# Altium footprint library Capacitor.PcbLib: 24 footprints (part 1 of 2)
Each footprint in its own frame and in the unit in brackets; x right, y up, seen from the top. Pads: shape width x height; smd on the part's side, far side on the other; paste and mask are expansions set on the pad; w line width, h text height; cw(c..) or ccw(c..) is an arc to the next point about the centre after c.
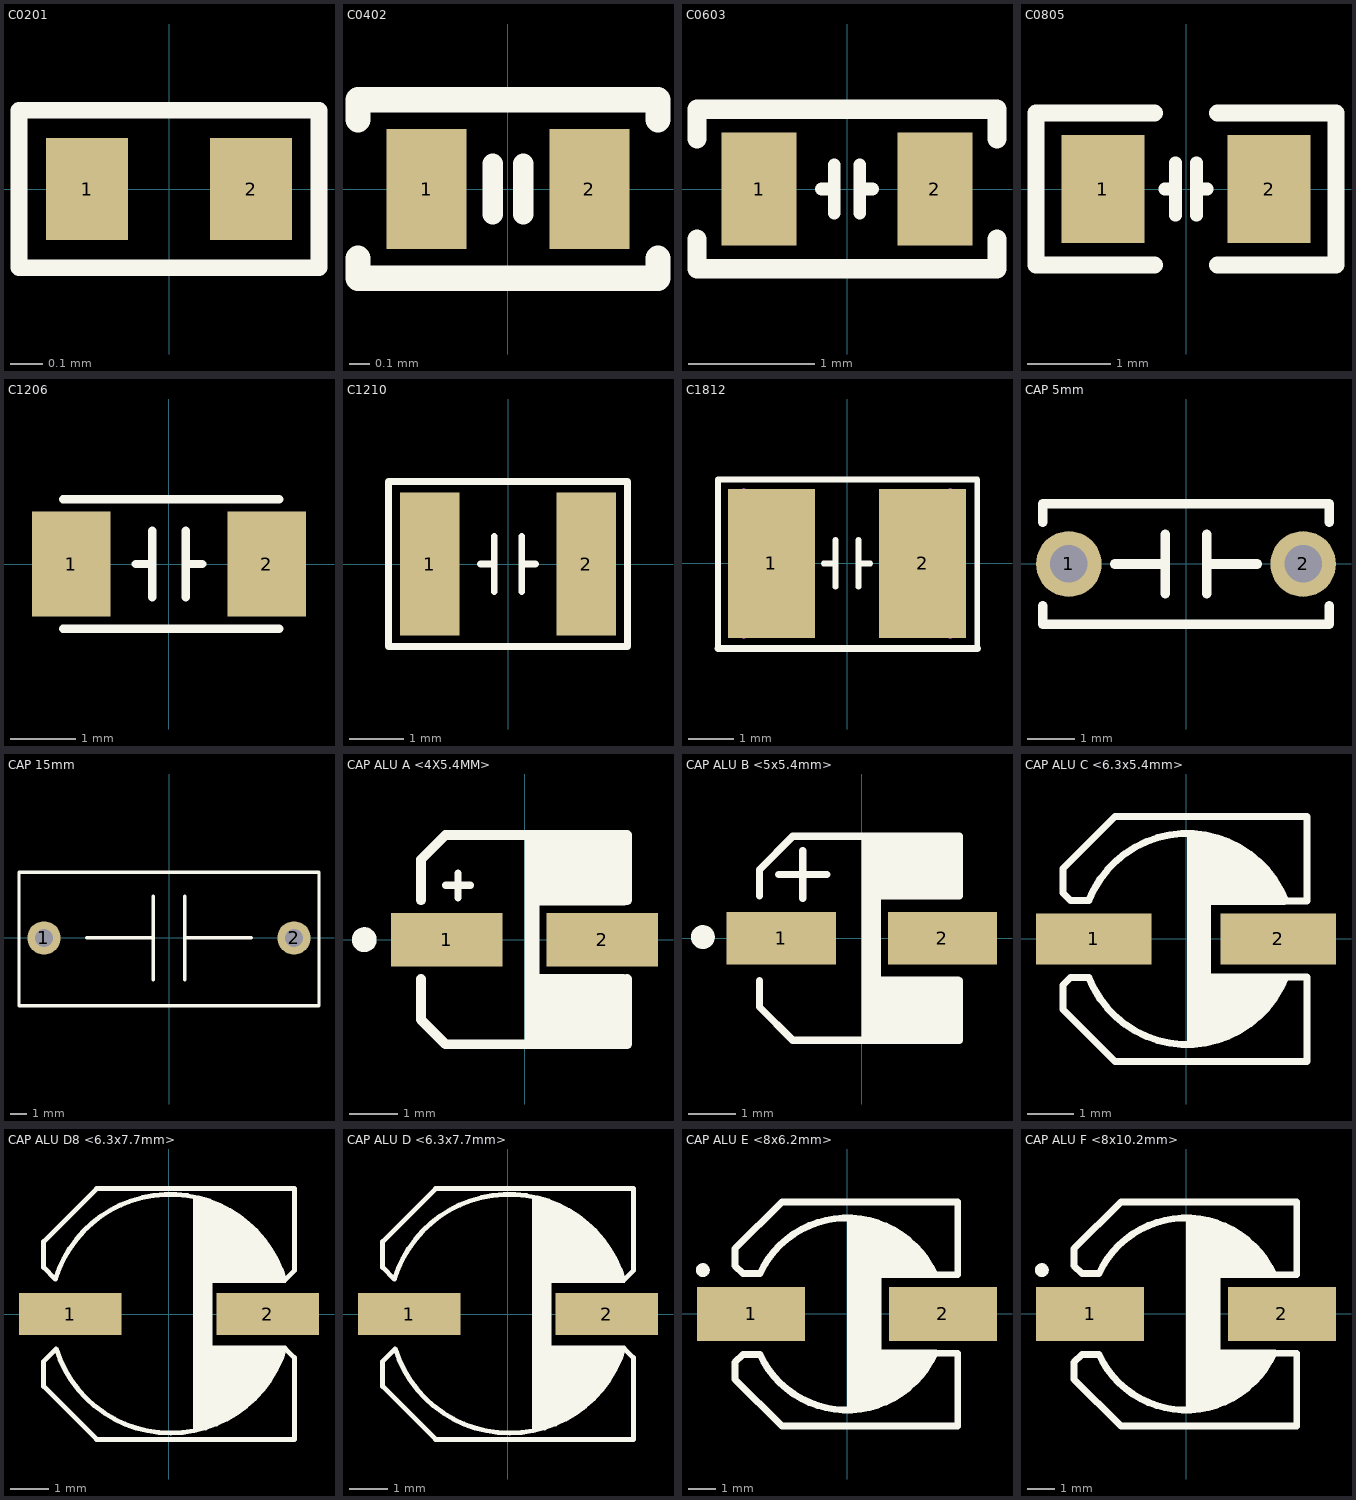
[diagram p0: the footprints below, top view; thin cyan lines are the x and y axes]

## C0201 [mm]
height 0.3
pads (2):
  rect 0.25x0.31 smd mask+0.051: 1(-0.25,0) 2(0.25,0)
Top Overlay:
  lines w0.051: -0.458,-0.24 0.457,-0.24 0.457,0.241 -0.458,0.241 -0.458,-0.24
3D body "C0201.stp": height 0.32, standoff 0.02, extent -0.3,-0.15 0.3,0.15

## C0402 [mm]
pads (2):
  rect 0.4x0.6 smd mask+0.051: 1(-0.406,0) 2(0.406,0)
Top Overlay:
  lines w0.102: -0.076,-0.127 -0.076,0.127 ; 0.076,-0.127 0.076,0.127
  lines w0.127: -0.75,-0.345 -0.75,-0.445 0.75,-0.445 0.75,-0.345 ; -0.75,0.346 -0.75,0.446 0.75,0.446 0.75,0.346
3D body "capacitor-0402C.step": height 0.35, standoff 0, extent -0.5,-0.265 0.5,0.265

## C0603 [mm]
height 5.08
pads (2):
  rect 0.6x0.9 smd mask+0.076: 1(-0.7,0) 2(0.7,0)
Top Overlay:
  lines w0.102: -0.203,0 -0.102,0 ; -0.102,-0.191 -0.102,0.191 ; 0.102,-0.191 0.102,0.191 ; 0.102,0 0.203,0
  lines w0.152: -1.194,-0.399 -1.194,-0.635 1.194,-0.635 1.194,-0.399 ; -1.194,0.399 -1.194,0.635 1.194,0.635 1.194,0.399
3D body "User Library-CAPC1608X09.step": height 0.9, standoff 0, extent -0.8,-0.4 0.8,0.4

## C0805 [mm]
height 1.27
pads (2):
  rect 1x1.3 smd: 1(-0.999,0) 2(0.999,0)
Top Overlay:
  lines w0.152: -0.254,0 -0.127,0 ; -0.127,-0.318 -0.127,0.318 ; 0.127,-0.318 0.127,0.318 ; 0.127,0 0.254,0
  lines w0.203: -0.381,-0.914 -1.803,-0.914 -1.803,0.914 -0.381,0.914 ; 0.381,-0.914 1.803,-0.914 1.803,0.914 0.381,0.914
3D body "SW3dPS-0805 SMD Capacitor.STEP": height 0.78, standoff 0, extent -1,-0.625 1,0.625

## C1206 [mm]
height 1.1
pads (2):
  rect 1.2x1.6 smd: 1(-1.492,0.001) 2(1.492,-0.001)
Top Overlay:
  lines w0.127: -1.619,-0.99 1.683,-0.99 ; -1.619,0.991 1.683,0.991 ; -0.508,0 -0.254,0 ; -0.254,-0.508 -0.254,0.508 ; 0.254,-0.508 0.254,0.508 ; 0.254,0 0.508,0
3D body "capacitor 1206.step": height 0.94, standoff 0, extent -1.6,-0.8 1.6,0.8

## C1210 [mm]
height 1.7
pads (2):
  rect 1.1x2.65 smd: 1(-1.45,0) 2(1.45,0)
Top Overlay:
  lines w0.127: -0.508,0 -0.254,0 ; -0.254,-0.508 -0.254,0.508 ; 0.254,-0.508 0.254,0.508 ; 0.254,0 0.508,0 ; -2.21,-1.524 -2.21,1.524 2.21,1.524 2.21,-1.524 -2.21,-1.524
Mechanical 13:
  lines w0.1: -1.6,-1.25 -1.6,1.25 ; 1.6,-1.25 1.6,1.25
3D body "C1210.stp": height 2.02, standoff 0.02, extent -1.6,-1.25 1.6,1.25

## C1812 [mm]
height 3.5
pads (2):
  rect 1.9x3.25 smd: 1(-1.65,0) 2(1.65,0)
Top Overlay:
  lines w0.127: -2.819,-1.854 -2.819,1.829 2.845,1.829 2.845,-1.854 ; -0.508,0 -0.254,0 ; -0.254,-0.508 -0.254,0.508 ; 0.254,-0.508 0.254,0.508 ; 0.254,0 0.508,0
  lines w0.152: -2.819,-1.854 2.845,-1.854
Mechanical 13:
  lines w0.1: -2.25,-1.6 -2.25,1.6 ; 2.25,-1.6 2.25,1.6
3D body "C1812.stp": height 2.67, standoff 0.07, extent -2.25,-1.6 2.25,1.6

## CAP 5mm [mm] "104uF, 684uF"
pads (2):
  round 1.4 hole 0.8: 1(-2.5,0) 2(2.5,0)
Top Overlay:
  lines w0.203: -3.059,-0.889 -3.059,-1.289 3.054,-1.289 3.054,-0.889 ; -3.059,0.889 -3.059,1.289 3.054,1.289 3.054,0.889 ; -1.524,0 -0.445,0 ; -0.445,-0.635 -0.445,0 ; -0.445,0.635 -0.445,0 ; 0.445,-0.635 0.445,0 ; 0.445,0.635 0.445,0 ; 1.524,0 0.445,0
3D body "CONDENSADOR 104J.stp": height 6.23, standoff -2.6, extent -3.059,-1.289 3.054,1.289

## CAP 15mm [mm] "104uF, 684uF"
pads (2):
  round 2 hole 1.1: 1(-7.5,0) 2(7.5,0)
Top Overlay:
  lines w0.203: -4.953,0 -0.953,0 ; -0.953,-2.5 -0.953,0 ; -0.953,2.5 -0.953,0 ; 0.953,-2.5 0.953,0 ; 0.953,2.5 0.953,0 ; 4.953,0 0.953,0 ; -9,-4.064 9,-4.064 9,3.937 -9,3.937 -9,-4.064
3D body "freecad_film_capacitor.step": height 16, standoff -5, extent -9,-4 9,4

## CAP ALU A <4X5.4MM> [mm] "SIZE A"
height 5.4
pads (2):
  rect 2.3x1.1 smd: 1(-1.6,0) 2(1.6,0)
Top Overlay:
  circle w0.254: c-3.302,0 r0.13
  region: 0.301,-0.714 2.06,-0.714 2.037,-2.148 0,-2.148 0,2.148 0.916,2.148 2.057,2.183 2.057,1.552 2.071,0.713 0.301,0.713
  lines w0.152: -1.626,1.118 -1.118,1.118 ; -1.372,0.864 -1.372,1.372
  lines w0.203: -2.134,-0.813 -2.134,-1.651 -1.629,-2.155 2.108,-2.155 2.108,-0.813 ; -2.134,0.813 -2.134,1.651 -1.629,2.155 2.108,2.155 2.108,0.813
3D body "User Library-Capacitor Size A.STEP": height 5.73, standoff 0.03, extent -2.35,-2.155 2.35,2.144

## CAP ALU B <5x5.4mm> [mm]
pads (2):
  rect 2.3x1.1 smd: 1(-1.7,0) 2(1.7,0)
Top Overlay:
  circle w0.254: c-3.353,0.025 r0.124
  region: 0.394,-0.814 2.059,-0.814 2.037,-2.18 0,-2.18 0,2.115 0.916,2.115 2.057,2.15 2.057,1.52 2.069,0.819 0.393,0.819
  lines w0.152: -2.159,-0.889 -2.159,-1.448 -1.457,-2.15 2.057,-2.15 2.057,-0.889 ; -2.159,0.889 -2.159,1.448 -1.457,2.15 2.057,2.15 2.057,0.889 ; -1.753,1.346 -0.737,1.346 ; -1.245,0.838 -1.245,1.854
3D body "CAPAE430X550N-(B).stp": height 5.93, standoff 0.13, extent -2.5,-2.15 2.5,2.15

## CAP ALU C <6.3x5.4mm> [mm]
pads (2):
  rect 2.5x1.1 smd: 1(-2,0) 2(2,0)
Top Overlay:
  region: 0.532,-0.751 2.237,-0.751 1.738,-1.477 1.203,-1.983 0.6,-2.18 0.025,-2.279 0.025,2.309 0.941,2.115 1.47,1.758 1.904,1.349 2.152,0.744 0.532,0.744
  lines w0.152: -2.667,-1.524 -1.541,-2.65 2.62,-2.65 2.62,-0.889 2.62,-0.82 2.158,-0.82 cw(c0.024,0) -2.103,-0.836 -2.505,-0.836 -2.667,-0.997 -2.667,-1.524 ; -2.667,0.997 -2.667,1.524 -1.541,2.65 2.62,2.65 2.62,0.889 2.62,0.82 2.158,0.82 ccw(c0.024,0) -2.103,0.835 -2.505,0.835 -2.667,0.997
3D body "CAPAE530X550N-(C).stp": height 5.93, standoff 0.13, extent -3,-2.65 3,2.65

## CAP ALU D8 <6.3x7.7mm> [mm]
pads (2):
  rect 2.7x1.1 smd: 1(-2.6,0) 2(2.6,0)
Top Overlay:
  region: 1.143,-0.838 3.064,-0.838 2.921,-1.27 2.667,-1.778 2.128,-2.309 1.651,-2.667 1.143,-2.921 0.635,-3.048 0.635,3.048 1.27,2.921 1.905,2.54 2.413,2.032 2.921,1.27 3.069,0.822 1.143,0.822
  lines w0.127: -3.302,-1.905 -3.302,-1.245 -2.972,-0.914 ccw(c0.039,0.015) 3.053,-0.899 3.302,-1.148 3.302,-3.302 -1.905,-3.302 -3.302,-1.905 ; -3.302,1.226 -3.302,1.905 -1.905,3.302 3.302,3.302 3.302,1.144 3.047,0.889 ccw(c0.024,0) -2.991,0.915 -3.302,1.226
3D body "CAPAE660X800N-(D8).stp": height 7.7, standoff 0, extent -3.65,-3.3 3.65,3.3

## CAP ALU D <6.3x7.7mm> [mm]
pads (2):
  rect 2.7x1.1 smd: 1(-2.6,0) 2(2.6,0)
Top Overlay:
  region: 1.143,-0.838 3.064,-0.838 2.921,-1.27 2.667,-1.778 2.128,-2.309 1.651,-2.667 1.143,-2.921 0.635,-3.048 0.635,3.048 1.27,2.921 1.905,2.54 2.413,2.032 2.921,1.27 3.069,0.822 1.143,0.822
  lines w0.127: -3.302,-1.905 -1.905,-3.302 3.302,-3.302 3.302,-1.148 3.053,-0.899 cw(c0.039,0.015) -2.972,-0.914 -3.302,-1.245 -3.302,-1.905 ; -3.302,1.226 -2.991,0.915 cw(c0.024,0) 3.047,0.889 3.302,1.144 3.302,3.302 -1.905,3.302 -3.302,1.905 -3.302,1.226
3D body "CAPAE660X550N-(D).stp": height 5.93, standoff 0.13, extent -3.65,-3.3 3.65,3.3

## CAP ALU E <8x6.2mm> [mm]
pads (2):
  rect 4x2 smd: 1(-3.55,0) 2(3.55,0)
Top Overlay:
  circle w0.254: c-5.334,1.626 r0.13
  region: 1.27,-1.331 3.329,-1.331 2.7,-2.258 2.233,-2.758 1.425,-3.274 0,-3.556 0,3.556 0.936,3.385 1.776,3.052 2.564,2.442 3.328,1.333 1.27,1.333
  lines w0.254: -4.14,-2.415 -4.14,-1.784 -3.853,-1.498 -3.225,-1.498 ccw(c0,0) 3.245,-1.455 4.099,-1.455 4.099,-4.15 -2.405,-4.15 -4.14,-2.415 ; -4.14,1.784 -4.14,2.415 -2.405,4.15 4.099,4.15 4.099,1.455 3.245,1.455 ccw(c0,0) -3.225,1.497 -3.853,1.497 -4.14,1.784
3D body "CAPAE830X650N-(E).stp": height 6.33, standoff 0.13, extent -4.5,-4.15 4.5,4.15

## CAP ALU F <8x10.2mm> [mm]
pads (2):
  rect 4x2 smd: 1(-3.55,0) 2(3.55,0)
Top Overlay:
  circle w0.254: c-5.334,1.626 r0.13
  region: 1.27,-1.331 3.329,-1.331 2.7,-2.258 2.233,-2.758 1.425,-3.274 0,-3.556 0,3.556 0.936,3.385 1.776,3.052 2.564,2.442 3.328,1.333 1.27,1.333
  lines w0.254: -4.14,-2.415 -4.14,-1.784 -3.853,-1.498 -3.225,-1.498 ccw(c0,0) 3.245,-1.455 4.099,-1.455 4.099,-4.15 -2.405,-4.15 -4.14,-2.415 ; -4.14,1.784 -4.14,2.415 -2.405,4.15 4.099,4.15 4.099,1.455 3.245,1.455 ccw(c0,0) -3.225,1.497 -3.853,1.497 -4.14,1.784
3D body "CAPAE830X1050N-(F).stp": height 10.33, standoff 0.13, extent -4.85,-4.15 4.85,4.15